# Altium footprint library vsonp_8_p127_600x500x110.PcbLib: 1 footprints
Each footprint in its own frame and in the unit in brackets; x right, y up, seen from the top. Pads: shape width x height; smd on the part's side, far side on the other; paste and mask are expansions set on the pad; w line width, h text height; cw(c..) or ccw(c..) is an arc to the next point about the centre after c.
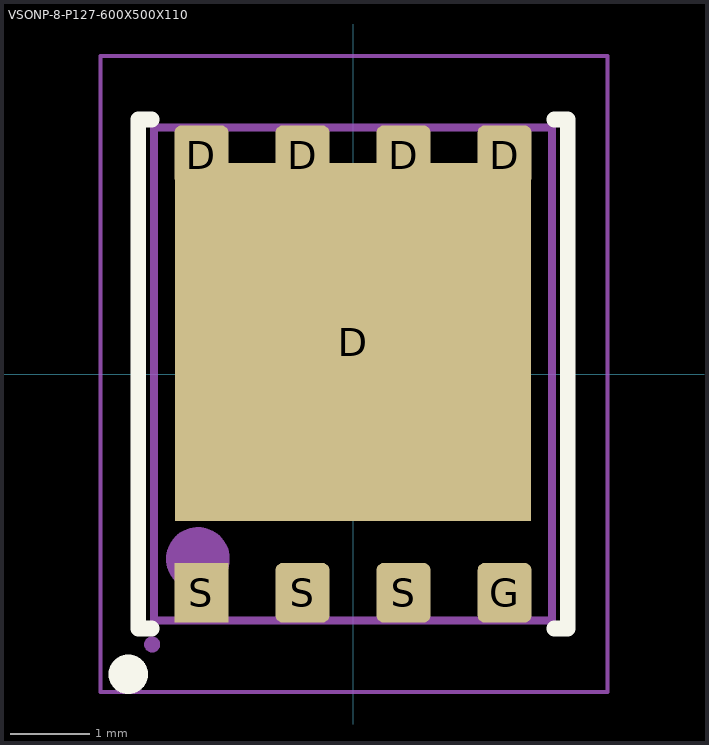
[diagram p0: the footprint, top view; thin cyan lines are the x and y axes]

## VSONP-8-P127-600X500X110 [mm] "VSONP, 8-Leads, Body 6,00x5,00mm, Pitch 1,27mm, Thermal Pad 4,44x4,52mm,IPC Medium Density"
height 1.1
pads (9):
  rrect25% 0.675x0.75 smd paste-0.002: D(-1.905,2.75) D(-0.635,2.75) D(0.635,2.75) D(1.905,2.75) G(1.905,-2.75) S(-0.635,-2.75) S(0.635,-2.75)
  rect 4.48x4.5 smd paste-10: D(0,0.4)
  rect 0.675x0.75 smd paste-0.002: S(-1.905,-2.75)
Top Overlay:
  circle w0.5: c-2.825,-3.775 r0
  lines w0.2: -2.53,-3.2 -2.7,-3.2 -2.7,3.2 -2.53,3.2 ; 2.53,-3.2 2.7,-3.2 2.7,3.2 2.53,3.2
Top Paste:
  region: -0.3,-1.435 -0.3,-0.2 -1.87,-0.2 -1.87,-1.435
  region: 1.87,-1.435 1.87,-0.2 0.3,-0.2 0.3,-1.435
  region: -0.3,0.3 -0.3,1.885 -1.87,1.885 -1.87,0.3
  region: 1.87,0.3 1.87,1.885 0.3,1.885 0.3,0.3
  lines w0.05: -1.87,-1.435 -0.3,-1.435 -0.3,-0.2 -1.87,-0.2 -1.87,-1.435 ; -1.87,0.3 -1.87,1.885 -0.3,1.885 -0.3,0.3 -1.87,0.3 ; 0.3,-1.435 0.3,-0.2 1.87,-0.2 1.87,-1.435 0.3,-1.435 ; 0.3,0.3 1.87,0.3 1.87,1.885 0.3,1.885 0.3,0.3
Top Comment:
  text ".Comment" at 1,4.1 h1.2
Top Designator:
  text ".Designator" at -0.3,4.1 h1.2
Top Component Outline:
  circle w0.4: c-1.95,-2.325 r0.2
  circle w0.1: c-2.525,-3.4 r0.05
  lines w0.1: -2.5,-3.1 2.5,-3.1 2.5,3.1 -2.5,3.1 -2.5,-3.1
Top Courtyard (Mech15):
  lines w0.05: -3.175,-4 3.2,-4 3.2,4 -3.175,4 -3.175,-4
  lines w0.1: -0.5,0 0.5,0 ; 0,-0.5 0,0.5
3D body "VSONP-8.STEP": height 1.15, standoff 0, extent -2.45,-3.13 2.45,3.13